# Altium integrated library 06032U180GAT2A.IntLib: 1 symbol
Pins are listed as number, name and electrical type; pins without a type are passive.

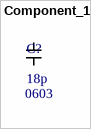
[diagram p0: symbol Component_1]

## Component_1
designator C?, comment 18p  PCB layout:: 0603
Buying URL:: https://uk.farnell.com/avx/06032u180gat2a/cap-18pf-200v-2-c0g-np0-0603-smd/dp/7568339RL
footprint *CAPC1608X90
pins: 1, 2